# EAGLE library part TI-LM5161 (library ClintonLib)
4.5-100Vin, 1A out Synchronous Buck/Fly-Buck Converter LM5161 Datasheet <http://www.ti.com/lit/ds/symlink/lm5161.pdf> LM5161-Q1 Datasheet <http://www.ti.com/lit/ds/symlink/lm5161-q1.pdf> TI Page <http://www.ti.com/product/LM5161>
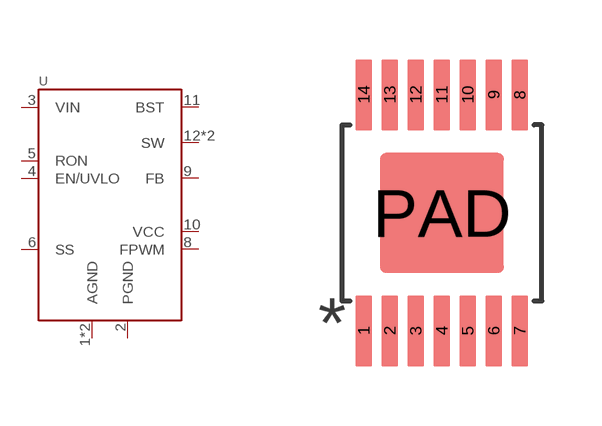
[diagram p34: symbol with the pads of TI-HTSSOP-14; footprint TI-HTSSOP-14]

Designator prefix -

## TI-LM5161  [TI-HTSSOP-14]
1  AGND
2  PGND
3  VIN
4  EN/UVLO
5  RON
6  SS
8  FPWM
9  FB
10  VCC
11  BST
12  SW
13  SW
PAD  AGND

## Footprint TI-HTSSOP-14 (pad centres in mm)
Used with TI LM5161
smd 0.42 x 1.78: 1 -1.95,-2.95; 2 -1.3,-2.95; 3 -0.65,-2.95; 4 0,-2.95; 5 0.65,-2.95; 6 1.3,-2.95; 7 1.95,-2.95; 8 1.95,2.95; 9 1.3,2.95; 10 0.65,2.95; 11 0,2.95; 12 -0.65,2.95; 13 -1.3,2.95; 14 -1.95,2.95
smd 3.1 x 3: PAD 0,0